# Altium schematic symbol library OPTOCOUPLER.SchLib: 1 symbol
Pins are listed as number, name and electrical type; pins without a type are passive.

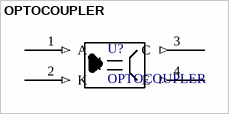
[diagram p0: symbol OPTOCOUPLER]

## OPTOCOUPLER
designator U?
Optocoupler symbol
pins: 1 A (in), 2 K (in), 3 C (out), 4 E (out)